# Altium footprint library MicroUSB 10118193.PcbLib: 1 footprints
Each footprint in its own frame and in the unit in brackets; x right, y up, seen from the top. Pads: shape width x height; smd on the part's side, far side on the other; paste and mask are expansions set on the pad; w line width, h text height; cw(c..) or ccw(c..) is an arc to the next point about the centre after c.
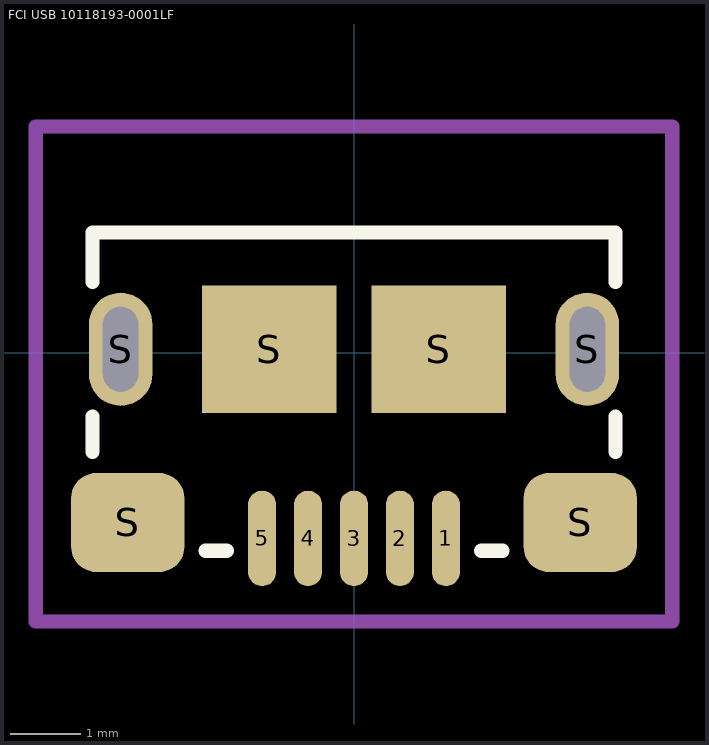
[diagram p0: the footprint, top view; thin cyan lines are the x and y axes]

## FCI USB 10118193-0001LF [mm] "USB 2.0 Type B Micro"
height 3.1
pads (11):
  oval 0.4x1.35 smd: 1(1.3,-2.625) 2(0.65,-2.625) 3(0,-2.625) 4(-0.65,-2.625) 5(-1.3,-2.625)
  oval 0.9x1.6 hole 0.5 slot 1.2 at 90 deg: S(-3.3,0.05) S(3.3,0.05)
  rrect50% 1.6x1.4 smd: S(-3.2,-2.4) S(3.2,-2.4)
  rect 1.9x1.8 smd: S(-1.2,0.05) S(1.2,0.05)
Top Overlay:
  lines w0.2: -3.7,-1.4 -3.7,-0.9 ; -3.7,1 -3.7,1.7 3.7,1.7 3.7,1 ; -2.1,-2.8 -1.8,-2.8 ; 1.8,-2.8 2.1,-2.8 ; 3.7,-1.4 3.7,-0.9
Mechanical 4:
  lines w0.2: -4.5,-3.8 4.5,-3.8 4.5,3.2 -4.5,3.2 -4.5,-3.8